# Altium footprint library IR_Sensor.PcbLib: 1 footprints
Each footprint in its own frame and in the unit in brackets; x right, y up, seen from the top. Pads: shape width x height; smd on the part's side, far side on the other; paste and mask are expansions set on the pad; w line width, h text height; cw(c..) or ccw(c..) is an arc to the next point about the centre after c.
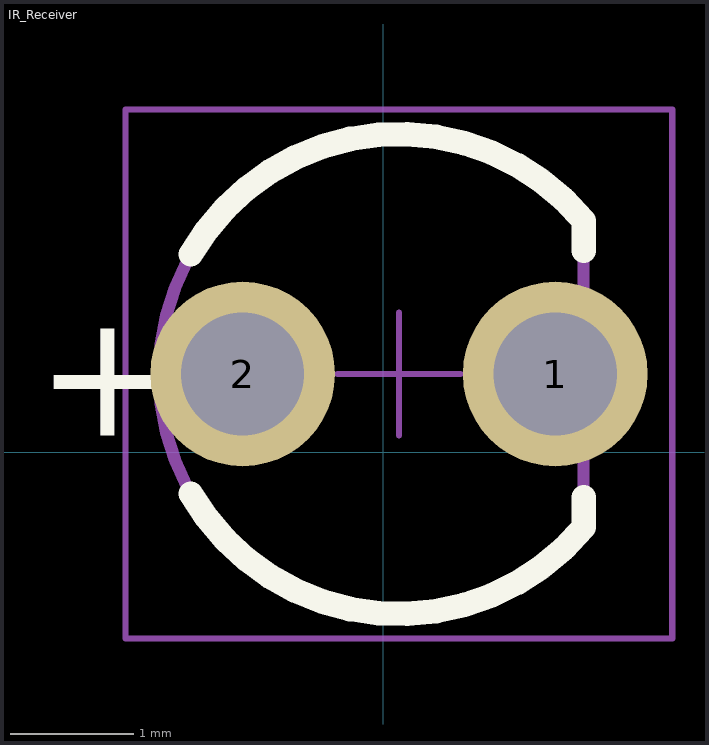
[diagram p0: the footprint, top view; thin cyan lines are the x and y axes]

## IR_Receiver [mm]
pads (2):
  round 1.5 hole 1: 1(1.397,0.635) 2(-1.143,0.635)
Top Overlay:
  lines w0.2: -1.563,-0.338 ccw(c0.127,0.635) 1.627,-0.61 1.627,-0.365 ; -1.563,1.608 cw(c0.127,0.635) 1.627,1.88 1.627,1.635
  text "+" at -2.823,0.135 h1.02
Top Designator:
  text ".Designator" at -3.872,0.368 h0.8
Top Component Outline:
  lines w0.1: 1.627,-0.61 cw(c0.127,0.635) 1.627,1.88 ; 1.627,-0.61 1.627,1.88
Top 3D Body:
  lines w0.1: 1.627,-0.61 cw(c0.127,0.635) 1.627,1.88 ; 1.627,-0.61 1.627,1.88
Top Courtyard:
  lines w0.05: -0.373,0.635 0.627,0.635 ; 0.127,0.135 0.127,1.135 ; -2.093,-1.515 2.347,-1.515 2.347,2.785 -2.093,2.785 -2.093,-1.515
3D body "SFH_235_FA.stp": height 6.9, standoff -27.6, extent -2.373,-0.635 2.627,2.365